# Altium footprint library my_lib.PcbLib: 38 footprints (part 1 of 3)
Each footprint in its own frame and in the unit in brackets; x right, y up, seen from the top. Pads: shape width x height; smd on the part's side, far side on the other; paste and mask are expansions set on the pad; w line width, h text height; cw(c..) or ccw(c..) is an arc to the next point about the centre after c.
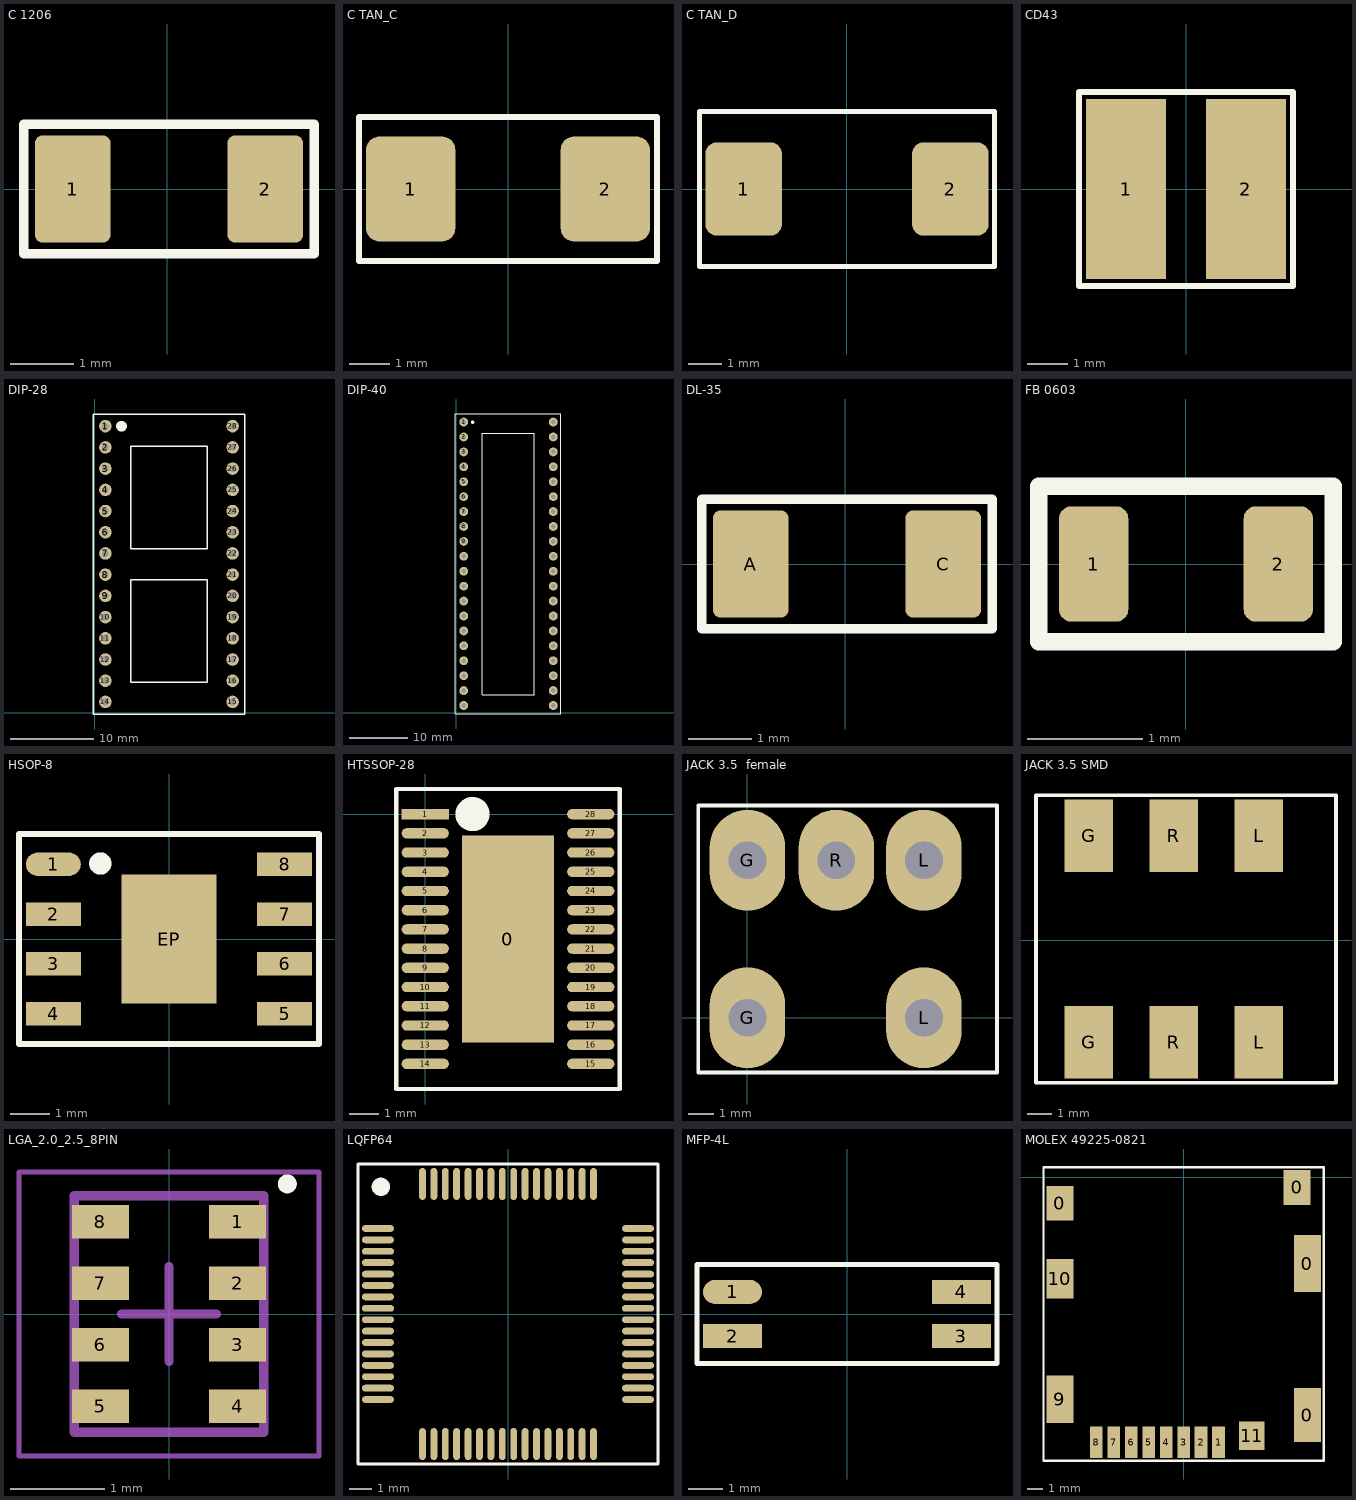
[diagram p0: the footprints below, top view; thin cyan lines are the x and y axes]

## C 1206 [mm]
pads (2):
  rrect20% 1.2x1.7 smd: 1(-1.5,0) 2(1.55,0)
Top Overlay:
  lines w0.15: -2.275,-1.025 2.325,-1.025 2.325,1.025 -2.275,1.025 -2.275,-1.025
3D body: height 1.5, standoff 0, extent 1.05,-0.8 1.55,0.8
3D body: height 1.5, standoff 0, extent -1.05,-0.8 1.05,0.8
3D body: height 1.5, standoff 0, extent -1.55,-0.8 -1.05,0.8

## C TAN_C [mm]
pads (2):
  rrect30% 2.2x2.6 smd: 1(-2.4,0) 2(2.4,0)
Top Overlay:
  lines w0.15: -3.675,-1.775 3.675,-1.775 3.675,1.775 -3.675,1.775 -3.675,-1.775
3D body "Tan_Cap_C.stp": height 2.6, standoff 0, extent -3,-1.6 3,1.6

## C TAN_D [mm]
pads (2):
  rrect30% 2.3x2.8 smd: 1(-3.1,0) 2(3.1,0)
Top Overlay:
  lines w0.15: -4.425,-2.325 -4.425,2.325 4.425,2.325 4.425,-2.325 -4.425,-2.325
3D body "Tan_Cap_D.stp": height 2.9, standoff 0, extent -3.65,-2.15 3.65,2.15

## CD43 [mm] "Для катушки индуктивности."
pads (2):
  rect 2x4.5 smd: 1(-1.5,0) 2(1.5,0)
Top Overlay:
  lines w0.15: -2.675,-2.425 -2.675,-2.05 -2.675,2.425 2.675,2.425 2.675,-2.425 -2.675,-2.425
3D body "User Library-CD43NP.STEP": height 3.5, standoff 0, extent -2.4,-2.15 2.4,2.15

## DIP-28 [mm]
pads (28):
  round 1.5 hole 0.8: 1(1.27,34.29) 2(1.27,31.75) 3(1.27,29.21) 4(1.27,26.67) 5(1.27,24.13) 6(1.27,21.59) 7(1.27,19.05) 8(1.27,16.51) 9(1.27,13.97) 10(1.27,11.43) 11(1.27,8.89) 12(1.27,6.35) 13(1.27,3.81) 14(1.27,1.27) 15(16.51,1.27) 16(16.51,3.81) 17(16.51,6.35) 18(16.51,8.89) 19(16.51,11.43) 20(16.51,13.97) 21(16.51,16.51) 22(16.51,19.05) 23(16.51,21.59) 24(16.51,24.13) 25(16.51,26.67) 26(16.51,29.21) 27(16.51,31.75) 28(16.51,34.29)
Top Overlay:
  circle w1: c3.2,34.3 r0.141
  lines w0.15: 4.3,14.65 4.3,15.9 ; 4.3,14.65 4.3,3.6 13.475,3.6 13.475,15.9 4.3,15.9 ; 4.3,14.65 4.3,15.9 ; -0.175,-0.175 -0.175,31.8 -0.175,32.025 -0.175,35.175 -0.175,35.75 16.6,35.75 17.95,35.75 17.95,0.25 17.95,-0.175 0.4,-0.175 -0.175,-0.175 ; 4.3,19.6 13.475,19.6 13.475,30.175 13.475,31.9 4.3,31.9 4.3,30.6 4.3,19.6
3D body "User Library-SCL-28.STEP": height 5.1, standoff -3.1, extent -0.005,0 17.775,35.56

## DIP-40 [mm]
pads (40):
  round 1.5 hole 0.8: 1(1.27,49.53) 2(1.27,46.99) 3(1.27,44.45) 4(1.27,41.91) 5(1.27,39.37) 6(1.27,36.83) 7(1.27,34.29) 8(1.27,31.75) 9(1.27,29.21) 10(1.27,26.67) 11(1.27,24.13) 12(1.27,21.59) 13(1.27,19.05) 14(1.27,16.51) 15(1.27,13.97) 16(1.27,11.43) 17(1.27,8.89) 18(1.27,6.35) 19(1.27,3.81) 20(1.27,1.27) 21(16.51,1.27) 22(16.51,3.81) 23(16.51,6.35) 24(16.51,8.89) 25(16.51,11.43) 26(16.51,13.97) 27(16.51,16.51) 28(16.51,19.05) 29(16.51,21.59) 30(16.51,24.13) 31(16.51,26.67) 32(16.51,29.21) 33(16.51,31.75) 34(16.51,34.29) 35(16.51,36.83) 36(16.51,39.37) 37(16.51,41.91) 38(16.51,44.45) 39(16.51,46.99) 40(16.51,49.53)
Top Overlay:
  circle w0.3: c2.8,49.5 r0.141
  lines w0.15: -0.175,-0.175 -0.175,49.675 -0.175,50.9 0.425,50.9 17.8,50.9 17.8,50.35 17.8,-0.175 17.6,-0.175 0.6,-0.175 -0.175,-0.175 ; 4.4,3.1 13.3,3.1 13.3,5.175 13.3,47.6 4.4,47.6 4.4,4.175 4.4,3.1
3D body "User Library-DIP40-600-1.step": height 4.8, standoff -3.5, extent 0,0 17.6,50.7

## DL-35 [mm]
pads (2):
  rrect20% 1.2x1.7 smd: A(-1.5,0) C(1.55,0)
Top Overlay:
  lines w0.15: -2.275,-1.025 2.325,-1.025 2.325,1.025 -2.275,1.025 -2.275,-1.025
3D body "MELF.STEP": height 1.55, standoff 0.05, extent -1.75,-0.75 1.75,0.75

## FB 0603 [mm]
pads (2):
  rrect35% 0.6x1 smd: 1(-0.8,0) 2(0.8,0)
Top Overlay:
  lines w0.15: -1.275,-0.675 1.275,-0.675 1.275,0.675 -1.275,0.675 -1.275,-0.675
3D body: height 0.9, standoff 0, extent 0.5,-0.425 0.8,0.425
3D body: height 0.9, standoff 0, extent -0.5,-0.425 0.5,0.425
3D body: height 0.9, standoff 0, extent -0.8,-0.425 -0.5,0.425

## HSOP-8 [mm]
pads (9):
  oval 1.4x0.6 smd: 1(-2.95,1.905)
  rect 1.4x0.6 smd: 2(-2.95,0.635) 3(-2.95,-0.635) 4(-2.95,-1.905) 5(2.95,-1.905) 6(2.95,-0.635) 7(2.95,0.635) 8(2.95,1.905)
  rect 2.41x3.3 smd: EP(0,0)
Top Overlay:
  circle w0.3: c-1.75,1.925 r0.135
  lines w0.15: -3.825,-2.675 -1.95,-2.675 3.125,-2.675 3.825,-2.675 3.825,1.9 3.825,2.675 -2.75,2.675 -3.825,2.675 -3.825,-2.675
3D body "HSOP-8.stp": height 1.7, standoff 0, extent -3,-2.5 3,2.5

## HTSSOP-28 [mm]
pads (29):
  rect 3.1x7 smd: 0(2.8,-4.225)
  rect 1.6x0.35 smd: 1(0,0)
  oval 1.6x0.35 smd: 2(0,-0.65) 3(0,-1.3) 4(0,-1.95) 5(0,-2.6) 6(0,-3.25) 7(0,-3.9) 8(0,-4.55) 9(0,-5.2) 10(0,-5.85) 11(0,-6.5) 12(0,-7.15) 13(0,-7.8) 14(0,-8.45) 15(5.6,-8.45) 16(5.6,-7.8) 17(5.6,-7.15) 18(5.6,-6.5) 19(5.6,-5.85) 20(5.6,-5.2) 21(5.6,-4.55) 22(5.6,-3.9) 23(5.6,-3.25) 24(5.6,-2.6) 25(5.6,-1.95) 26(5.6,-1.3) 27(5.6,-0.65) 28(5.6,0)
Top Overlay:
  circle w1: c1.6,0 r0.075
  lines w0.15: -0.975,-9.3 6.575,-9.3 6.575,0.85 -0.975,0.85 -0.975,-9.3
3D body "User Library-PWP (R-PDSO-G28).STEP": height 1.2, standoff 0, extent -0.57,-9.125 6.05,0.675

## JACK 3.5  female [mm]
pads (5):
  oval 3x4 hole 1.5: G(0,0) G(0,6.25) L(7,0) L(7,6.25) R(3.525,6.25)
Top Overlay:
  lines w0.15: -1.95,-2.175 -1.95,8.425 9.9,8.425 9.9,-2.175 0.175,-2.175 -0.475,-2.175 -1.95,-2.175
3D body "User Library-Jack Audio 3_5 Female.STEP": height 5.02, standoff -2.99, extent -4.275,-0.186 9.725,6.4

## JACK 3.5 SMD [mm]
pads (6):
  rect 2x3 smd: G(4,-4.2) G(4,4.3) L(11,-4.2) L(11,4.3) R(7.5,-4.2) R(7.5,4.3)
Top Overlay:
  lines w0.15: 1.825,-5.875 1.825,5.975 14.175,5.975 14.175,-5.875 1.825,-5.875
3D body: height 5, standoff 0, extent 0,-3.3 14,3.3
3D body: height 0.1, standoff 0, extent 3.5,3.3 4.5,4.3
3D body: height 0.1, standoff 0, extent 7,3.3 8,4.3
3D body: height 0.1, standoff 0, extent 10.5,3.3 11.5,4.3
3D body: height 0.1, standoff 0, extent 10.5,-4.3 11.5,-3.3
3D body: height 0.1, standoff 0, extent 7,-4.3 8,-3.3
3D body: height 0.1, standoff 0, extent 3.5,-4.3 4.5,-3.3

## LGA_2.0_2.5_8PIN [mm] "SON, 8-Leads, Body 2,50x2,00mm, Pitch 0,65mm, IPC Medium Density"
height 0.95
pads (8):
  rect 0.6x0.35 smd: 1(0.725,0.975) 2(0.725,0.325) 3(0.725,-0.325) 4(0.725,-0.975) 5(-0.725,-0.975) 6(-0.725,-0.325) 7(-0.725,0.325) 8(-0.725,0.975)
Top Overlay:
  circle w0.1: c1.25,1.375 r0.05
Mechanical 13:
  lines w0.1: -1,-1.25 -1,1.25 1,1.25 1,-1.25 -1,-1.25
Mechanical 15:
  lines w0.05: -1.585,-1.5 -1.585,1.5 1.585,1.5 1.585,-1.5 -1.585,-1.5
  lines w0.1: -0.5,0 0.5,0 ; 0,-0.5 0,0.5
3D body "User Library-BST-BMP280.STEP": height 1, standoff 0, extent -1,-1.25 1,1.25

## LQFP64 [mm]
pads (64):
  oval 1.4x0.3 smd: 1(-5.7,3.75) 2(-5.7,3.25) 3(-5.7,2.75) 4(-5.7,2.25) 5(-5.7,1.75) 6(-5.7,1.25) 7(-5.7,0.75) 8(-5.7,0.25) 9(-5.7,-0.25) 10(-5.7,-0.75) 11(-5.7,-1.25) 12(-5.7,-1.75) 13(-5.7,-2.25) 14(-5.7,-2.75) 15(-5.7,-3.25) 16(-5.7,-3.75) 33(5.7,-3.75) 34(5.7,-3.25) 35(5.7,-2.75) 36(5.7,-2.25) 37(5.7,-1.75) 38(5.7,-1.25) 39(5.7,-0.75) 40(5.7,-0.25) 41(5.7,0.25) 42(5.7,0.75) 43(5.7,1.25) 44(5.7,1.75) 45(5.7,2.25) 46(5.7,2.75) 47(5.7,3.25) 48(5.7,3.75)
  oval 0.3x1.4 smd: 17(-3.75,-5.7) 18(-3.25,-5.7) 19(-2.75,-5.7) 20(-2.25,-5.7) 21(-1.75,-5.7) 22(-1.25,-5.7) 23(-0.75,-5.7) 24(-0.25,-5.7) 25(0.25,-5.7) 26(0.75,-5.7) 27(1.25,-5.7) 28(1.75,-5.7) 29(2.25,-5.7) 30(2.75,-5.7) 31(3.25,-5.7) 32(3.75,-5.7) 49(3.75,5.7) 50(3.25,5.7) 51(2.75,5.7) 52(2.25,5.7) 53(1.75,5.7) 54(1.25,5.7) 55(0.75,5.7) 56(0.25,5.7) 57(-0.25,5.7) 58(-0.75,5.7) 59(-1.25,5.7) 60(-1.75,5.7) 61(-2.25,5.7) 62(-2.75,5.7) 63(-3.25,5.7) 64(-3.75,5.7)
Top Overlay:
  circle w0.4: c-5.575,5.575 r0.2
  lines w0.15: 2.075,-6.575 6.575,-6.575 6.575,3.225 6.575,6.575 -3.525,6.575 -6.575,6.575 -6.575,0.85 -6.575,-2 -6.575,-6.575 2.225,-6.575
3D body "LQFP64.step": height 1.6, standoff 0, extent -6,-6 6,6

## MFP-4L [mm]
pads (4):
  oval 1.7x0.7 smd: 1(-3.3,0.635)
  rect 1.7x0.7 smd: 2(-3.3,-0.635) 3(3.3,-0.635) 4(3.3,0.635)
Top Overlay:
  lines w0.15: -4.325,-1.425 3.025,-1.425 4.325,-1.425 4.325,0.75 4.325,1.425 -3.075,1.425 -3.45,1.425 -4.325,1.425 -4.325,0.425 -4.325,-1.425
3D body "MF-4L.stp": height 2.3, standoff 0, extent -3.5,-1.25 3.5,1.25

## MOLEX 49225-0821 [mm]
pads (15):
  rect 1.7x2.2 smd: 0(-7.8,-1.65) 0(7.15,-0.65)
  rect 1.7x3.4 smd: 0(7.8,-15)
  rect 1.7x3.6 smd: 0(7.8,-5.45)
  rect 0.8x2 smd: 1(2.2,-16.7) 2(1.1,-16.7) 3(0,-16.7) 4(-1.1,-16.7) 5(-2.2,-16.7) 6(-3.3,-16.7) 7(-4.4,-16.7) 8(-5.5,-16.7)
  rect 1.7x3 smd: 9(-7.8,-14)
  rect 1.7x2.5 smd: 10(-7.8,-6.4)
  rect 1.6x1.8 smd: 11(4.29,-16.3)
Top Overlay:
  lines w0.15: -8.825,-17.875 8.825,-17.875 8.825,0.625 -8.825,0.625 -8.825,-13.325 -8.825,-13.8 -8.825,-17.875
3D body "Molex_49225-0821_microSD.stp": height 1.98, standoff 0, extent -8.05,-17.05 8.05,0